# Altium schematic symbol library Passive Components.SchLib: 2 symbols
Pins are listed as number, name and electrical type; pins without a type are passive.

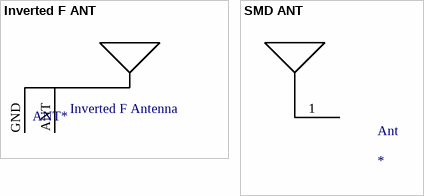
[diagram p0: symbols Inverted F ANT to SMD ANT]

## Inverted F ANT
designator ANT*  (value not drawn)
footprint INVERTED_F_ANT (2.4 GHz inverted F antenna)
pins: ANT, GND
text: Inverted F Antenna

## SMD ANT
designator Ant
footprint SMD_ANT
pins: 1 FEED